# Altium schematic symbol library M95512-RMN6TP.SchLib: 1 symbol
Pins are listed as number, name and electrical type; pins without a type are passive.

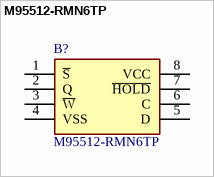
[diagram p0: symbol M95512-RMN6TP]

## M95512-RMN6TP
designator B?
512 Kbit SPI bus EEPROM with high-speed clock; Manufacturer_Name: STMicroelectronics; Geometry.Height: 1.75mm; Mouser Part Number: 511-M95512-RMN6TP; Mouser Price/Stock: https://www.mouser.co.uk/ProductDetail/STMicroelectronics/M95512-RMN6TP?qs=D3O9yD6Cgx9SaimnKH25jA%3D%3D; Manufacturer_Part_Number: M95512-RMN6TP; Datasheet Link: https://www.st.com/resource/en/datasheet/m95512-w.pdf
footprint SOIC127P600X175-8N
pins: 1 ~{S}, 2 Q, 3 ~{W}, 4 VSS, 5 D, 6 C, 7 ~{HOLD}, 8 VCC